# EAGLE library part 87759-40 (library con-molex-milli-grid)
HEADER
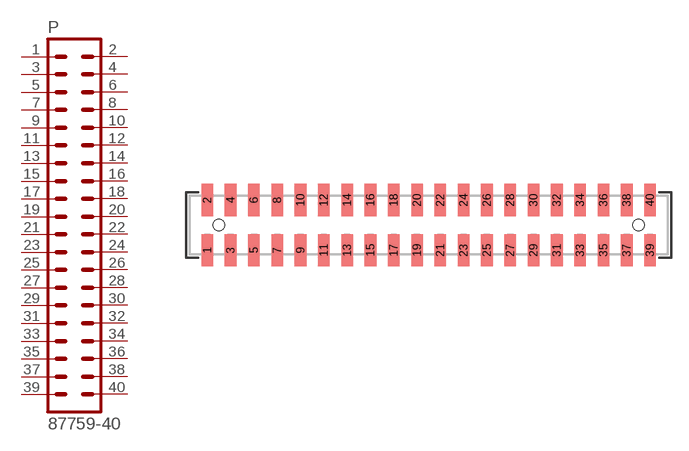
[diagram p131: symbol with the pads of 87759-40; footprint 87759-40]

Designator prefix P

## 87759-40  [87759-40]
1  1  pas
2  2  pas
3  3  pas
4  4  pas
5  5  pas
6  6  pas
7  7  pas
8  8  pas
9  9  pas
10  10  pas
11  11  pas
12  12  pas
13  13  pas
14  14  pas
15  15  pas
16  16  pas
17  17  pas
18  18  pas
19  19  pas
20  20  pas
21  21  pas
22  22  pas
23  23  pas
24  24  pas
25  25  pas
26  26  pas
27  27  pas
28  28  pas
29  29  pas
30  30  pas
31  31  pas
32  32  pas
33  33  pas
34  34  pas
35  35  pas
36  36  pas
37  37  pas
38  38  pas
39  39  pas
40  40  pas

## Footprint 87759-40 (pad centres in mm)
HEADER SMD Dual Row, Vertical
smd 1 x 2.75: 1 -19,-2.15; 2 -19,2.15; 3 -17,-2.15; 4 -17,2.15; 5 -15,-2.15; 6 -15,2.15; 7 -13,-2.15; 8 -13,2.15; 9 -11,-2.15; 10 -11,2.15; 11 -9,-2.15; 12 -9,2.15; 13 -7,-2.15; 14 -7,2.15; 15 -5,-2.15; 16 -5,2.15; 17 -3,-2.15; 18 -3,2.15; 19 -1,-2.15; 20 -1,2.15; 21 1,-2.15; 22 1,2.15; 23 3,-2.15; 24 3,2.15; 25 5,-2.15; 26 5,2.15; 27 7,-2.15; 28 7,2.15; 29 9,-2.15; 30 9,2.15; 31 11,-2.15; 32 11,2.15; 33 13,-2.15; 34 13,2.15; 35 15,-2.15; 36 15,2.15; 37 17,-2.15; 38 17,2.15; 39 19,-2.15; 40 19,2.15
hole 1 at -18,0
hole 1 at 18,0